# EAGLE library part E73_2G4M04S (library E73-2G4M04S)
E73-2G4M04S nRF52832 based BLE module
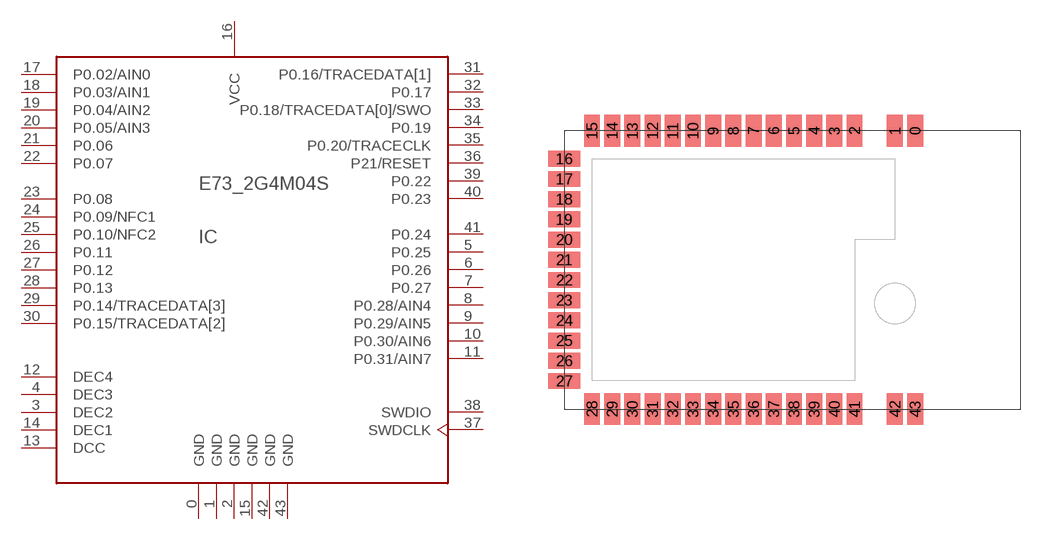
[diagram p0: symbol with the pads of E73_2G4M04S; footprint E73_2G4M04S]

Designator prefix IC

## E73_2G4M04S  [E73_2G4M04S]
0  GND
1  GND
2  GND
3  DEC2  pwr
4  DEC3  pwr
5  P0.25
6  P0.26
7  P0.27
8  P0.28/AIN4
9  P0.29/AIN5
10  P0.30/AIN6
11  P0.31/AIN7
12  DEC4  pwr
13  DCC  pwr
14  DEC1  pwr
15  GND
16  VCC  pas
17  P0.02/AIN0
18  P0.03/AIN1
19  P0.04/AIN2
20  P0.05/AIN3
21  P0.06
22  P0.07
23  P0.08
24  P0.09/NFC1
25  P0.10/NFC2
26  P0.11
27  P0.12
28  P0.13
29  P0.14/TRACEDATA[3]
30  P0.15/TRACEDATA[2]
31  P0.16/TRACEDATA[1]
32  P0.17
33  P0.18/TRACEDATA[0]/SWO
34  P0.19
35  P0.20/TRACECLK
36  P21/RESET
37  SWDCLK  in
38  SWDIO
39  P0.22
40  P0.23
41  P0.24
42  GND
43  GND

## Footprint E73_2G4M04S (pad centres in mm)
smd 1 x 2: 0 22.065,17.5; 1 20.795,17.5; 2 18.255,17.5; 3 16.985,17.5; 4 15.715,17.5; 5 14.445,17.5; 6 13.175,17.5; 7 11.905,17.5; 8 10.635,17.5; 9 9.365,17.5; 10 8.095,17.5; 11 6.825,17.5; 12 5.555,17.5; 13 4.285,17.5; 14 3.015,17.5; 15 1.745,17.5; 28 1.745,0; 29 3.015,0; 30 4.285,0; 31 5.555,0; 32 6.825,0; 33 8.095,0; 34 9.365,0; 35 10.635,0; 36 11.905,0; 37 13.175,0; 38 14.445,0; 39 15.715,0; 40 16.985,0; 41 18.255,0; 42 20.795,0; 43 22.065,0
smd 2 x 1: 16 0,15.735; 17 0,14.465; 18 0,13.195; 19 0,11.925; 20 0,10.655; 21 0,9.385; 22 0,8.115; 23 0,6.845; 24 0,5.575; 25 0,4.305; 26 0,3.035; 27 0,1.765